# Altium footprint library Vishay Sprague Tantalum Radial-Lead Capacitor.PcbLib: 71 footprints (part 2 of 5)
Each footprint in its own frame and in the unit in brackets; x right, y up, seen from the top. Pads: shape width x height; smd on the part's side, far side on the other; paste and mask are expansions set on the pad; w line width, h text height; cw(c..) or ccw(c..) is an arc to the next point about the centre after c.
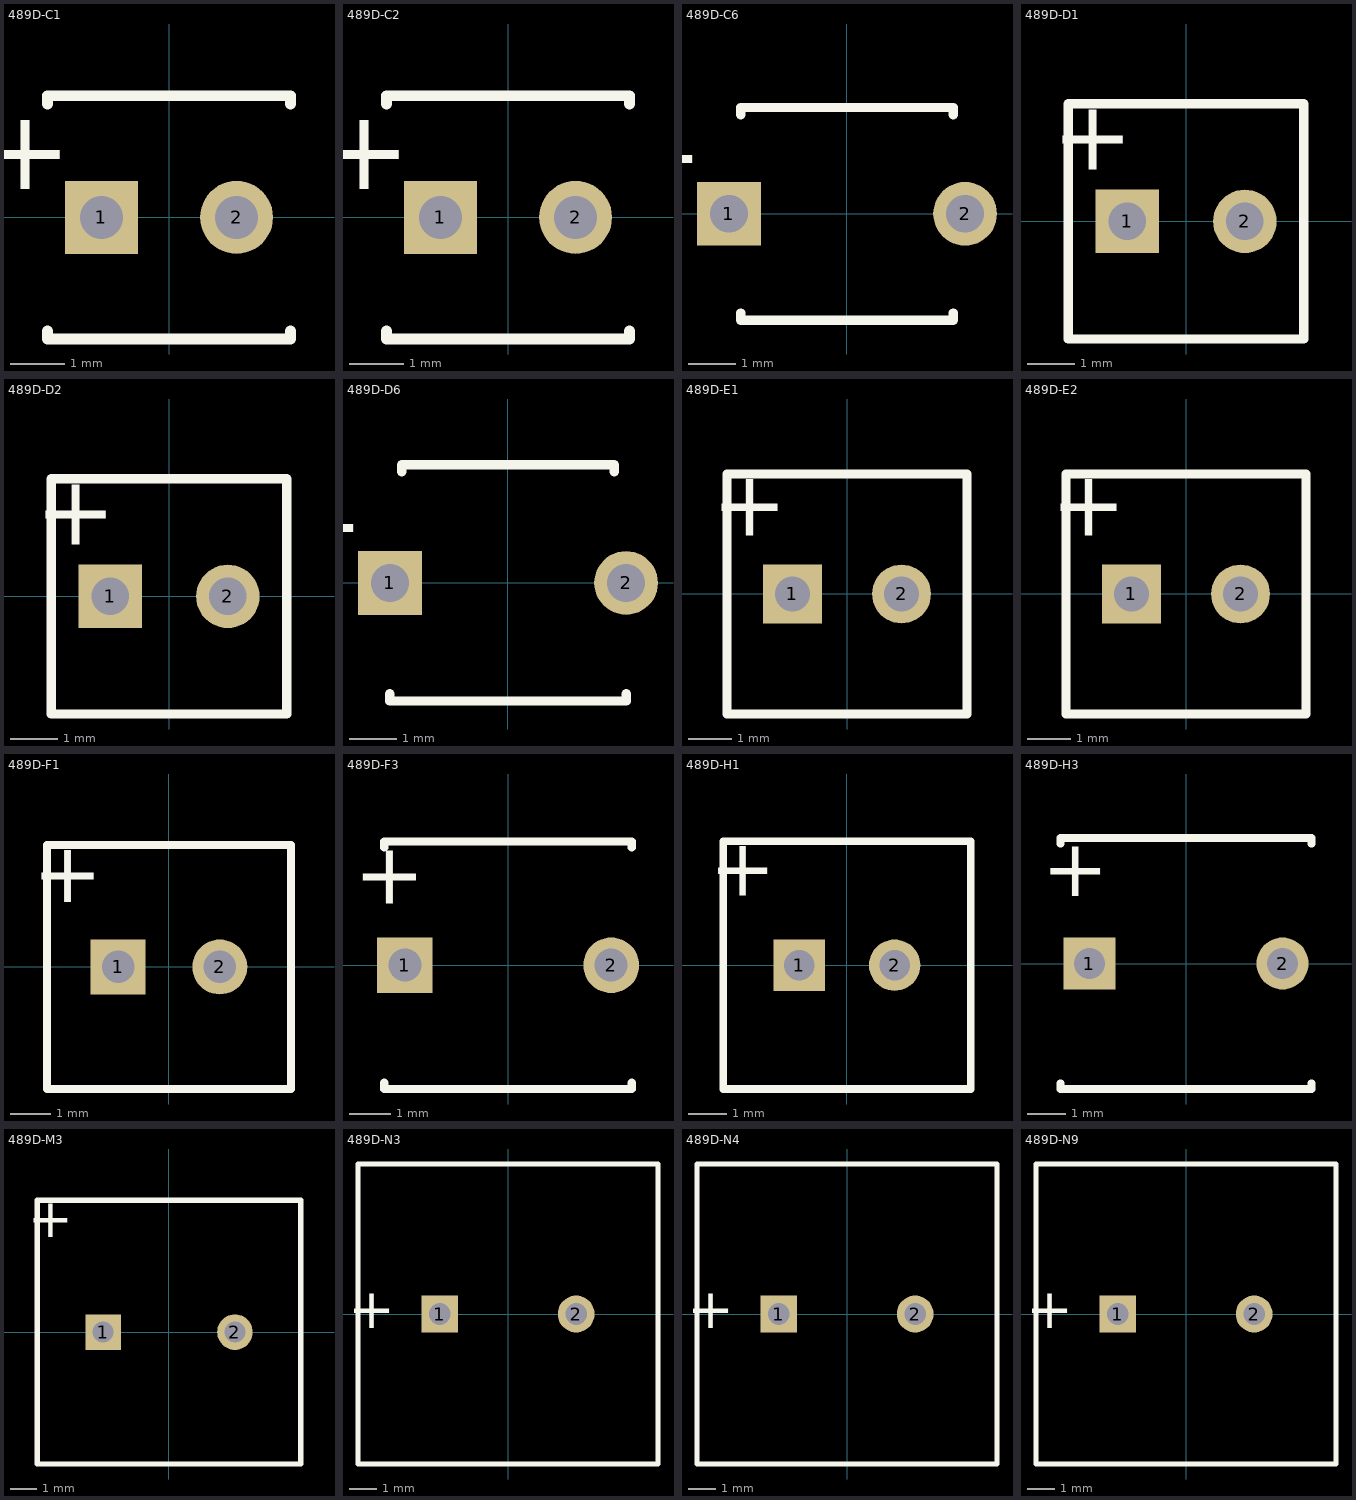
[diagram p1: the footprints below, top view; thin cyan lines are the x and y axes]

## 489D-C1 [mm] "Capacitor, Tantalum Bead; Body 4.5 x 8 mm (Dia.xH max); Pin Spacing 2.5 mm (typ)"
height 8
pads (2):
  rect 1.35x1.35 hole 0.8: 1(-1.25,0)
  round 1.35 hole 0.8: 2(1.25,0)
Top Overlay:
  lines w0.2: -2.25,-2.1 -2.25,-2.25 2.25,-2.25 2.25,-2.1 ; -2.25,2.1 -2.25,2.25 2.25,2.25 2.25,2.1
  text "+" at -1.8,1.8 h1.5

## 489D-C2 [mm] "Capacitor, Tantalum Bead; Body 4.5 x 8 mm (Dia.xH max); Pin Spacing 2.5 mm (typ)"
height 8
pads (2):
  rect 1.35x1.35 hole 0.8: 1(-1.25,0)
  round 1.35 hole 0.8: 2(1.25,0)
Top Overlay:
  lines w0.2: -2.25,-2.1 -2.25,-2.25 2.25,-2.25 2.25,-2.1 ; -2.25,2.1 -2.25,2.25 2.25,2.25 2.25,2.1
  text "+" at -1.8,1.8 h1.5

## 489D-C6 [mm] "Capacitor, Tantalum Bead; Body 4.5 x 10.5 mm (Dia.xH max); Pin Spacing 5.0 mm (typ)"
height 10.5
pads (2):
  rect 1.35x1.35 hole 0.8: 1(-2.5,0)
  round 1.35 hole 0.8: 2(2.5,0)
Top Overlay:
  lines w0.2: -2.25,-2.1 -2.25,-2.25 2.25,-2.25 2.25,-2.1 ; -2.25,2.1 -2.25,2.25 2.25,2.25 2.25,2.1
  text "+" at -3.05,1.8 h1.5

## 489D-D1 [mm] "Capacitor, Tantalum Bead; Body 5 x 9 mm (Dia.xH max); Pin Spacing 2.5 mm (typ)"
height 9
pads (2):
  rect 1.35x1.35 hole 0.8: 1(-1.25,0)
  round 1.35 hole 0.8: 2(1.25,0)
Top Overlay:
  lines w0.2: -2.5,2.5 2.5,2.5 2.5,-2.5 -2.5,-2.5 -2.5,2.5
  text "+" at -1.126,2.375 h1.5

## 489D-D2 [mm] "Capacitor, Tantalum Bead; Body 5 x 9 mm (Dia.xH max); Pin Spacing 2.5 mm (typ)"
height 9
pads (2):
  rect 1.35x1.35 hole 0.8: 1(-1.25,0)
  round 1.35 hole 0.8: 2(1.25,0)
Top Overlay:
  lines w0.2: -2.5,2.5 2.5,2.5 2.5,-2.5 -2.5,-2.5 -2.5,2.5
  text "+" at -1.126,2.375 h1.5

## 489D-D6 [mm] "Capacitor, Tantalum Bead; Body 5 x 11.5 mm (Dia.xH max); Pin Spacing 5.0 mm (typ)"
height 11.5
pads (2):
  rect 1.35x1.35 hole 0.8: 1(-2.5,0)
  round 1.35 hole 0.8: 2(2.5,0)
Top Overlay:
  lines w0.2: -2.5,-2.35 -2.5,-2.5 2.5,-2.5 2.5,-2.35 ; -2.25,2.35 -2.25,2.5 2.25,2.5 2.25,2.35
  text "+" at -3.05,1.8 h1.5

## 489D-E1 [mm] "Capacitor, Tantalum Bead; Body 5.5 x 10 mm (Dia.xH max); Pin Spacing 2.5 mm (typ)"
height 10
pads (2):
  rect 1.35x1.35 hole 0.8: 1(-1.25,0)
  round 1.35 hole 0.8: 2(1.25,0)
Top Overlay:
  lines w0.2: -2.75,-2.75 -2.75,2.75 2.75,2.75 2.75,-2.75 -2.75,-2.75
  text "+" at -1.375,2.625 h1.5

## 489D-E2 [mm] "Capacitor, Tantalum Bead; Body 5.5 x 10 mm (Dia.xH max); Pin Spacing 2.5 mm (typ)"
height 10
pads (2):
  rect 1.35x1.35 hole 0.8: 1(-1.25,0)
  round 1.35 hole 0.8: 2(1.25,0)
Top Overlay:
  lines w0.2: -2.75,-2.75 -2.75,2.75 2.75,2.75 2.75,-2.75 -2.75,-2.75
  text "+" at -1.375,2.625 h1.5

## 489D-F1 [mm] "Capacitor, Tantalum Bead; Body 6 x 11 mm (Dia.xH max); Pin Spacing 2.5 mm (typ)"
height 11
pads (2):
  rect 1.35x1.35 hole 0.8: 1(-1.25,0)
  round 1.35 hole 0.8: 2(1.25,0)
Top Overlay:
  lines w0.2: -3,-3 -3,3 3,3 3,-3 -3,-3
  text "+" at -1.625,2.875 h1.5

## 489D-F3 [mm] "Capacitor, Tantalum Bead; Body 6 x 11 mm (Dia.xH max); Pin Spacing 2.5 mm (typ)"
height 11
pads (2):
  rect 1.35x1.35 hole 0.8: 1(-2.5,0)
  round 1.35 hole 0.8: 2(2.5,0)
Top Overlay:
  lines w0.2: -3,-2.85 -3,-3 3,-3 3,-2.85 ; -3,2.85 -3,3 3,3 3,2.85
  text "+" at -2,2.77 h1.5

## 489D-H1 [mm] "Capacitor, Tantalum Bead; Body 6.5 x 12 mm (Dia.xH max); Pin Spacing 2.5 mm (typ)"
height 12
pads (2):
  rect 1.35x1.35 hole 0.8: 1(-1.25,0)
  round 1.35 hole 0.8: 2(1.25,0)
Top Overlay:
  lines w0.2: -3.25,-3.25 -3.25,3.25 3.25,3.25 3.25,-3.25 -3.25,-3.25
  text "+" at -1.875,3.125 h1.5

## 489D-H3 [mm] "Capacitor, Tantalum Bead; Body 6.5 x 12 mm (Dia.xH max); Pin Spacing 2.5 mm (typ)"
height 12
pads (2):
  rect 1.35x1.35 hole 0.8: 1(-2.5,0)
  round 1.35 hole 0.8: 2(2.5,0)
Top Overlay:
  lines w0.2: -3.25,-3.1 -3.25,-3.25 3.25,-3.25 3.25,-3.1 ; -3.25,3.1 -3.25,3.25 3.25,3.25 3.25,3.1
  text "+" at -2,3.02 h1.5

## 489D-M3 [mm] "Capacitor, Tantalum Bead; Body 10 x 14.5 mm (Dia.xH max); Pin Spacing 5.0 mm (typ)"
height 14.5
pads (2):
  rect 1.35x1.35 hole 0.8: 1(-2.5,0)
  round 1.35 hole 0.8: 2(2.5,0)
Top Overlay:
  lines w0.2: -5,-5 5,-5 5,5 -5,5 -5,-5
  text "+" at -3.625,4.875 h1.5

## 489D-N3 [mm] "Capacitor, Tantalum Bead; Body 11 x 16 mm (Dia.xH max); Pin Spacing 5.0 mm (typ)"
height 16
pads (2):
  rect 1.35x1.35 hole 0.8: 1(-2.5,0)
  round 1.35 hole 0.8: 2(2.5,0)
Top Overlay:
  lines w0.2: -5.5,-5.5 -5.5,5.5 5.5,5.5 5.5,-5.5 -5.5,-5.5
  text "+" at -4.125,0.75 h1.5

## 489D-N4 [mm] "Capacitor, Tantalum Bead; Body 11 x 16 mm (Dia.xH max); Pin Spacing 5.0 mm (typ)"
height 16
pads (2):
  rect 1.35x1.35 hole 0.8: 1(-2.5,0)
  round 1.35 hole 0.8: 2(2.5,0)
Top Overlay:
  lines w0.2: -5.5,-5.5 -5.5,5.5 5.5,5.5 5.5,-5.5 -5.5,-5.5
  text "+" at -4.125,0.75 h1.5

## 489D-N9 [mm] "Capacitor, Tantalum Bead; Body 11 x 19 mm (Dia.xH max); Pin Spacing 5.0 mm (typ)"
height 19
pads (2):
  rect 1.35x1.35 hole 0.8: 1(-2.5,0)
  round 1.35 hole 0.8: 2(2.5,0)
Top Overlay:
  lines w0.2: -5.5,-5.5 -5.5,5.5 5.5,5.5 5.5,-5.5 -5.5,-5.5
  text "+" at -4.125,0.75 h1.5